# Altium footprint library PERfECT-PRO.PcbLib: 22 footprints (part 2 of 2)
Each footprint in its own frame and in the unit in brackets; x right, y up, seen from the top. Pads: shape width x height; smd on the part's side, far side on the other; paste and mask are expansions set on the pad; w line width, h text height; cw(c..) or ccw(c..) is an arc to the next point about the centre after c.
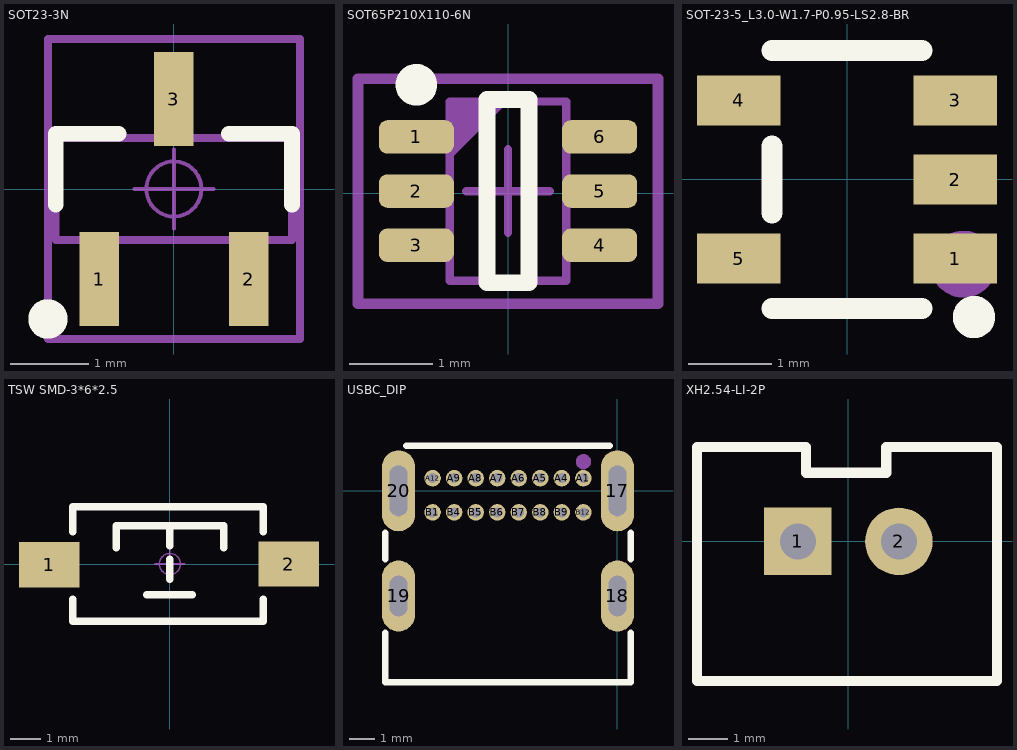
[diagram p1: the footprints below, top view; thin cyan lines are the x and y axes]

## SOT23-3N [mm]
pads (3):
  rect 0.5x1.2 smd: 1(-0.95,-1.143) 2(0.95,-1.143) 3(0,1.143)
Top Overlay:
  circle w0.25: c-1.6,-1.651 r0.125
  lines w0.2: -1.501,-0.2 -1.501,0.7 -0.701,0.7 ; 0.699,0.7 1.499,0.7 1.499,-0.2
Mechanical 13:
  lines w0.1: -1.5,-0.65 -1.5,0.65 1.5,0.65 1.5,-0.65 -1.5,-0.65
Mechanical 15:
  circle w0.05: c0,0 r0.35
  lines w0.05: -0.5,0 0.5,0 ; 0,-0.5 0,0.5
  lines w0.1: -1.6,-1.905 -1.6,1.905 1.6,1.905 1.6,-1.905 -1.6,-1.905
3D body "SOT23-3.STEP": height 1.05, standoff 0, extent -1.5,-1.2 1.5,1.2

## SOT65P210X110-6N [mm]
pads (6):
  rrect50% 0.9x0.4 smd mask+0.076: 1(-1.1,0.675) 2(-1.1,0.025) 3(-1.1,-0.625) 4(1.1,-0.625) 5(1.1,0.025) 6(1.1,0.675)
Top Overlay:
  circle w0.25: c-1.1,1.3 r0.125
  lines w0.203: -0.25,-1.075 0.25,-1.075 0.25,1.125 -0.25,1.125 -0.25,-1.075
Mechanical 5:
  region: -0.7,1.1 0,1.1 -0.7,0.4
  lines w0.1: -0.7,-1.05 0.7,-1.05 0.7,1.1 -0.7,1.1 -0.7,-1.05
  text ".Designator" at -0.356,-0.254 h0.51
Mechanical 15:
  lines w0.1: -0.5,0.025 0.5,0.025 ; 0,-0.475 0,0.525
  lines w0.127: -1.8,-1.325 1.8,-1.325 1.8,1.375 -1.8,1.375 -1.8,-1.325
3D body "SOT65P210X110-6N.STEP": height 0.99, standoff -0.01, extent -1.1,-0.975 1.1,1.013

## SOT-23-5_L3.0-W1.7-P0.95-LS2.8-BR [mm]
pads (5):
  rect 1x0.6 smd: 1(1.3,-0.95) 2(1.3,0) 3(1.3,0.95) 4(-1.3,0.95) 5(-1.3,-0.95)
Top Overlay:
  circle w0.254: c1.524,-1.651 r0.127
  lines w0.254: -0.9,-1.55 0.9,-1.55 ; -0.9,-0.4 -0.9,0.4 ; -0.9,1.55 0.9,1.55
Mechanical 15:
  circle w0.4: c1.397,-1.016 r0.2

## TSW SMD-3*6*2.5 [mm]
pads (2):
  rect 2x1.5 smd: 1(-3.996,-0.02) 2(3.937,0)
Top Overlay:
  lines w0.254: -3.212,-1.168 -3.212,-1.9 3.088,-1.9 3.088,-1.168 ; -3.212,1.067 -3.212,1.9 3.088,1.9 3.088,1.067 ; -1.778,0.533 -1.778,1.27 1.778,1.27 1.778,0.533 ; -0.762,-1.016 0.737,-1.016 ; 0,-0.508 0,0.152 ; 0,0.61 0,1.27
Mechanical 15:
  circle w0.05: c0,0 r0.35
  lines w0.05: -0.5,0 0.5,0 ; 0,-0.5 0,0.5
3D body "TSW SMD-3x6x2.5.STEP": height 2.59, standoff -0.03, extent -4,-1.877 4,1.623

## USBC_DIP [mm]
pads (20):
  oval 1.3x3.2 hole 0.7 slot 2 at 90 deg: 17(0,0) 20(-8.64,0)
  oval 1.3x2.8 hole 0.7 slot 1.6 at 90 deg: 18(0,-4.15) 19(-8.64,-4.15)
  round 0.65 hole 0.4: A1(-1.345,0.5) A4(-2.195,0.5) A5(-3.045,0.5) A6(-3.895,0.5) A7(-4.745,0.5) A8(-5.595,0.5) A9(-6.445,0.5) A12(-7.295,0.5) B1(-7.295,-0.85) B4(-6.445,-0.85) B5(-5.595,-0.85) B6(-4.745,-0.85) B7(-3.895,-0.85) B8(-3.045,-0.85) B9(-2.195,-0.85) B12(-1.345,-0.85)
Top Overlay:
  lines w0.254: -9.17,-5.603 -9.17,-7.55 0.53,-7.55 0.53,-5.603 ; -9.17,-2.697 -9.17,-1.653 ; -8.335,1.775 -0.305,1.775 ; 0.53,-2.697 0.53,-1.653
Mechanical 15:
  circle w0.3: c-1.345,1.15 r0.15

## XH2.54-LI-2P [mm]
pads (2):
  rect 1.7x1.7 hole 0.9: 1(-1.27,0)
  round 1.7 hole 0.9: 2(1.27,0)
Top Overlay:
  lines w0.254: -3.807,-3.505 -3.807,2.37 -1.067,2.37 -1.067,1.727 0.953,1.727 0.953,2.37 2.954,2.37 3.736,2.37 3.736,-3.505 -3.807,-3.505
3D body "XH2.54-2P.STEP": height 7.05, standoff -2.45, extent -3.77,-3.3 3.77,2.4